# Altium footprint library PDU.PcbLib: 35 footprints (part 2 of 3)
Each footprint in its own frame and in the unit in brackets; x right, y up, seen from the top. Pads: shape width x height; smd on the part's side, far side on the other; paste and mask are expansions set on the pad; w line width, h text height; cw(c..) or ccw(c..) is an arc to the next point about the centre after c.
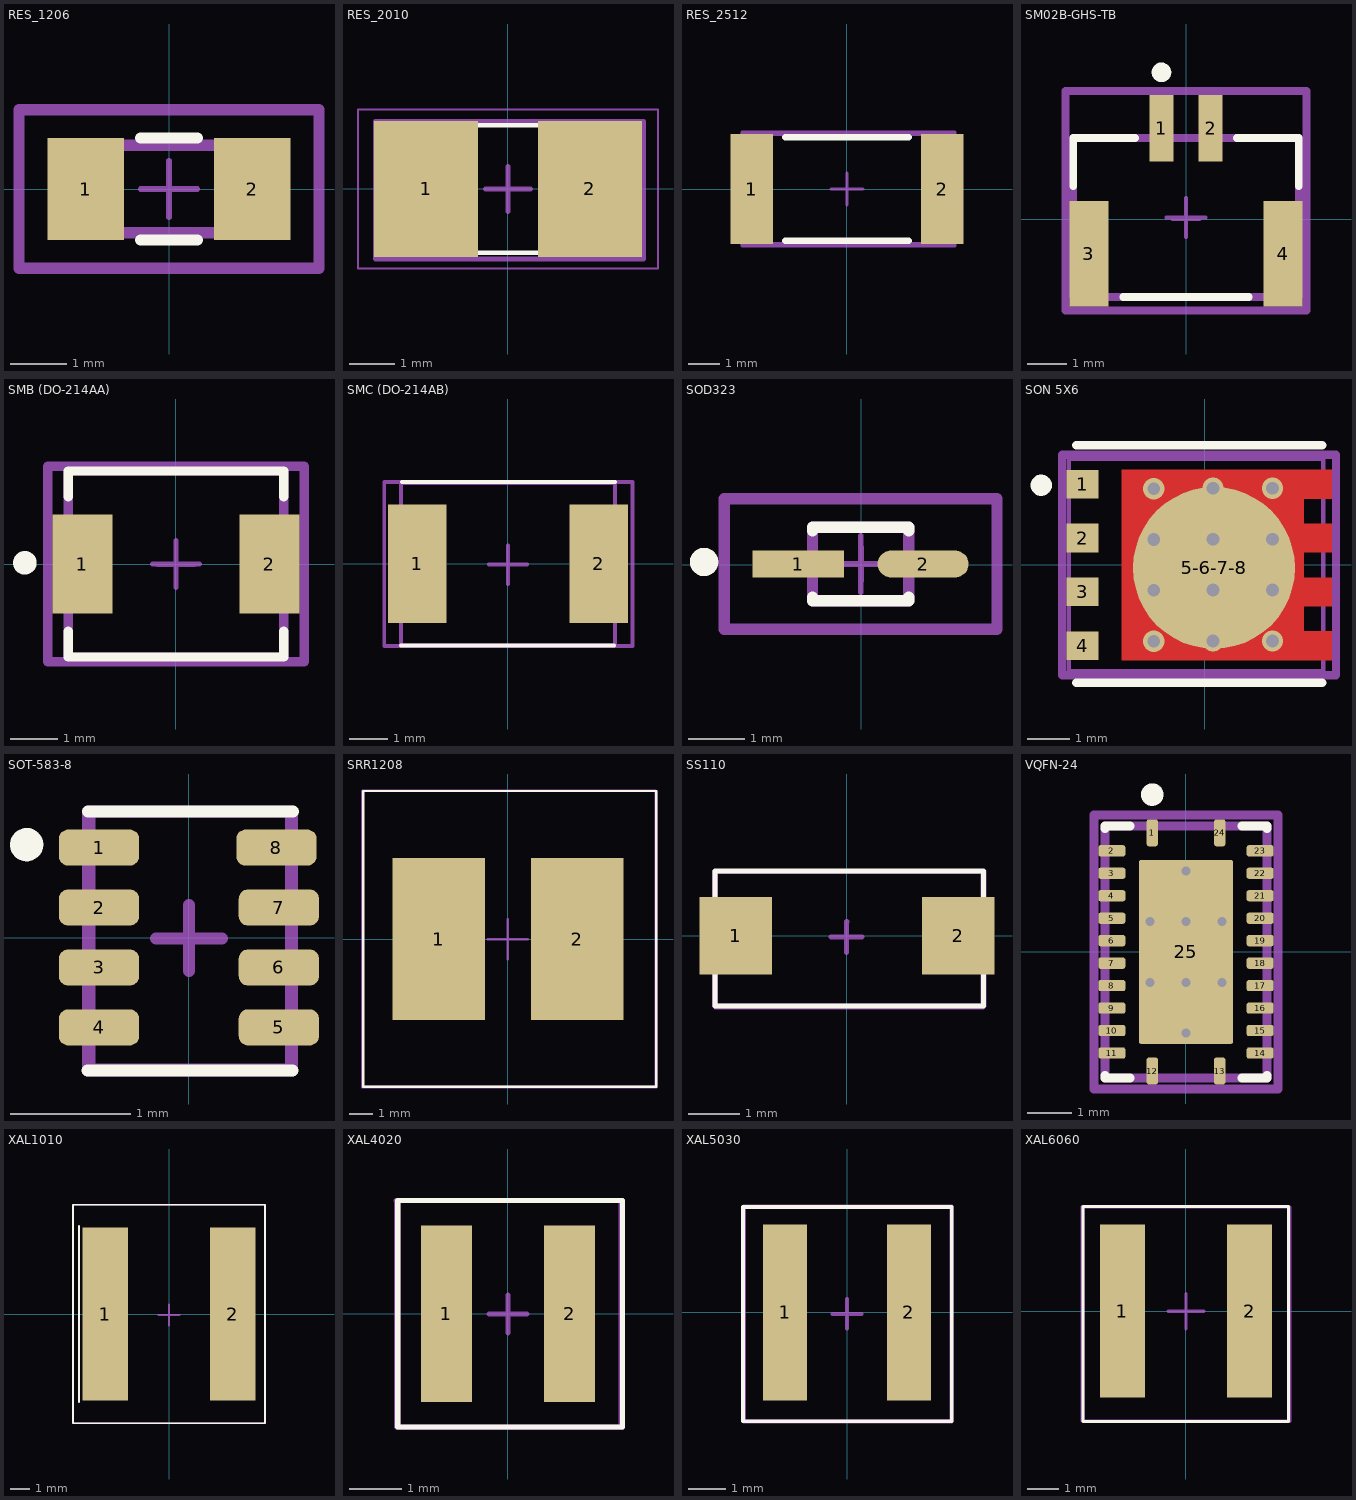
[diagram p1: the footprints below, top view; thin cyan lines are the x and y axes]

## RES_1206 [mm] "CSR1206FK10L0"
pads (2):
  rect 1.356x1.808 smd paste+0 mask+0: 1(-1.476,0) 2(1.476,0)
Top Overlay:
  lines w0.2: -0.498,-0.904 0.498,-0.904 ; -0.498,0.904 0.498,0.904
Top 3D Body:
  lines w0.2: -1.525,-0.775 -1.525,0.775 1.525,0.775 1.525,-0.775 -1.525,-0.775
Top Component Center:
  lines w0.1: -0.405,-0.007 0.401,-0.007 ; -0.002,-0.41 -0.002,0.396 ; -2.654,-1.404 -2.654,1.404 2.654,1.404 2.654,-1.404 -2.654,-1.404
Top Designator:
  text ".Designator" at 0,0.188 h1
Board:
  lines w0.1: -0.5,0 0.5,0 ; 0,-0.5 0,0.5
Top Courtyard:
  lines w0.2: -2.654,-1.404 -2.654,1.404 2.654,1.404 2.654,-1.404 -2.654,-1.404
3D body "Res_Stackpole_Electronics_CSR1206FKR500_eec.STEP": height 0.25, standoff 0, extent -2.654,-1.404 2.654,1.404

## RES_2010 [mm] "CSNL2010FT5L00"
height 0.9
pads (2):
  rect 2.29x3 smd: 1(-1.8,0) 2(1.8,0)
Top Overlay:
  lines w0.1: -1.5,-1.4 1.5,-1.4 ; -1.5,1.4 1.5,1.4
Top Component Center:
  lines w0.1: -0.325,-0.005 0.325,-0.005 ; 0,-0.33 0,0.32 ; -2.92,-1.54 2.99,-1.54 2.99,1.49 -2.92,1.49 -2.92,-1.54
Top Designator:
  text ".Designator" at -1.586,-0.698 h1.52
Top Courtyard:
  lines w0.05: -3.3,-1.75 -3.3,1.75 3.3,1.75 3.3,-1.75 -3.3,-1.75
  lines w0.1: -0.5,0 0.5,0 ; 0,-0.5 0,0.5
3D body: height 0.9, standoff 0, extent -1.875,-1.145 1.875,1.145
3D body: height 0.9, standoff 0, extent -2.665,-1.145 -1.875,1.145
3D body: height 0.9, standoff 0, extent 1.875,-1.145 2.665,1.145

## RES_2512 [mm] "PMR100HZPFU8L00"
height 0.5
pads (2):
  rect 1.35x3.45 smd: 1(-3,0) 2(3,0)
Top Overlay:
  lines w0.2: -1.95,-1.625 1.95,-1.625 ; -1.95,1.625 1.95,1.625
Top 3D Body:
  lines w0.1: -3.3,-1.8 3.4,-1.8 3.4,1.8 -3.3,1.8 -3.3,-1.8
Top Component Center:
  lines w0.1: -0.5,0 0.5,0 ; 0,-0.5 0,0.5 ; -3.325,-1.725 -3.325,1.725 3.325,1.725 3.325,-1.725 -3.325,-1.725
Top Designator:
  text ".Designator" at -0.846,-0.438 h1.52
3D body: height 0.5, standoff 0, extent -2.825,-1.725 2.825,1.725
3D body: height 0.5, standoff 0, extent -3.325,-1.725 -2.825,1.725
3D body: height 0.5, standoff 0, extent 2.825,-1.725 3.325,1.725

## SM02B-GHS-TB [mm]
pads (4):
  rect 0.6x1.7 smd paste+0 mask+0: 1(-0.625,2.315) 2(0.625,2.315)
  rect 1x2.7 smd paste+0 mask+0: 3(-2.475,-0.885) 4(2.475,-0.885)
Top Overlay:
  circle w0.25: c-0.625,3.74 r0.125
  lines w0.2: -2.875,0.84 -2.875,2.065 -1.3,2.065 ; -1.6,-1.985 1.6,-1.985 ; 1.3,2.065 2.875,2.065 2.875,0.84
Top 3D Body:
  lines w0.2: -2.875,-1.985 -2.875,2.065 2.875,2.065 2.875,-1.985 -2.875,-1.985
Top Component Center:
  lines w0.1: -0.34,0 0.34,0 ; 0,-0.34 0,0.34 ; -3.075,-2.335 3.075,-2.335 3.075,3.265 -3.075,3.265 -3.075,-2.335
Top Designator:
  text ".Designator" at 0,0.653 h1
Board:
  lines w0.1: -0.5,0.04 0.5,0.04 ; 0,-0.46 0,0.54
Top Courtyard:
  lines w0.2: -3.075,-2.335 -3.075,3.265 3.075,3.265 3.075,-2.335 -3.075,-2.335
3D body "Conn_JST_SM02B-GHS-TB_LF_SN_eec.STEP": height 0.25, standoff 0, extent -3.075,-2.335 3.075,3.265

## SMB (DO-214AA) [mm] "SMBJ15A-SMBJ33A-SMBJ12A-SMBJ6.0A"
pads (2):
  rect 1.27x2.1 smd paste+0 mask+0: 1(-1.98,0) 2(1.98,0)
Top Overlay:
  circle w0.25: c-3.2,0.025 r0.125
  lines w0.2: -2.285,-1.425 -2.285,-1.97 2.285,-1.97 2.285,-1.425 ; -2.285,1.425 -2.285,1.97 2.285,1.97 2.285,1.425
Top 3D Body:
  lines w0.2: -2.285,-1.97 -2.285,1.97 2.285,1.97 2.285,-1.97 -2.285,-1.97
Top Designator:
  text ".Designator" at 0,0.188 h1
Top Assembly:
  lines w0.1: -0.397,-0.013 0.397,-0.013 ; -0.004,0.385 0,0.385 0,-0.41 ; -2.715,-2.07 -2.715,2.07 2.715,2.07 2.715,-2.07 -2.715,-2.07
Board:
  lines w0.1: -0.5,0 0.5,0 ; 0,-0.5 0,0.5
Top Courtyard:
  lines w0.2: -2.715,-2.07 -2.715,2.07 2.715,2.07 2.715,-2.07 -2.715,-2.07
3D body "Diode_Bourns_Inc_SMBJ5_0A_eec.STEP": height 0.25, standoff 0, extent -2.715,-2.07 2.715,2.07

## SMC (DO-214AB) [mm] "SMCJ58A"
pads (2):
  rect 1.52x3.07 smd paste-2539.97 mask+0.05: 1(-2.345,0) 2(2.345,0)
Top Overlay:
  lines w0.1: -2.765,-2.11 2.745,-2.11 ; -2.74,2.12 2.77,2.12
Top 3D Body:
  lines w0.1: -2.765,-2.11 2.765,-2.11 2.765,2.09 -2.715,2.09 -2.765,2.09 -2.765,-2.11
Top Component Center:
  lines w0.1: -0.499,-0.014 0.491,-0.014 ; 0,-0.52 0,0.47 ; -3.2,-2.13 3.22,-2.13 3.22,2.12 -3.2,2.12 -3.2,-2.13
3D body "Diode_Bourns_Inc_SMBJ5_0A_eec.STEP": height 0.25, standoff 0, extent -2.71,-2.05 2.72,2.09

## SOD323 [mm] "BZT52C15S-7-F"
pads (2):
  rect 1.606x0.472 smd paste+0 mask+0: 1(-1.11,0.01)
  rrect100% 1.606x0.472 smd paste+0 mask+0: 2(1.09,0.01)
Top Overlay:
  circle w0.25: c-2.77,0.046 r0.125
  lines w0.2: -0.86,-0.575 -0.86,-0.64 0.84,-0.64 0.84,-0.575 ; -0.86,0.595 -0.86,0.66 0.84,0.66 0.84,0.595
Top 3D Body:
  lines w0.2: -0.86,-0.64 -0.86,0.66 0.84,0.66 0.84,-0.64 -0.86,-0.64
Top Component Center:
  lines w0.1: -0.3,0.01 0.3,0.01 ; -0.01,0.31 0,0.31 0,-0.29 ; -2.413,-1.14 2.393,-1.14 2.393,1.16 -2.413,1.16 -2.413,-1.14
Top Designator:
  text ".Designator" at -0.01,0.198 h1
Board:
  lines w0.1: -0.51,0.01 0.49,0.01 ; -0.01,-0.49 -0.01,0.51
Top Courtyard:
  lines w0.2: -2.413,-1.14 -2.413,1.16 2.393,1.16 2.393,-1.14 -2.413,-1.14
3D body "Diode_Diodes_Inc_BZT52C15S-7-F_eec.STEP": height 0.25, standoff 0, extent -2.413,-1.14 2.393,1.16

## SON 5X6 [mm] "CSD19534Q5A - CSD18540Q5B - CSD18531Q5A"
pads (5):
  rect 0.75x0.675 smd paste-1000 mask+0: 1(-2.879,1.905) 2(-2.879,0.635) 3(-2.879,-0.635) 4(-2.879,-1.905)
  round 3.821 smd paste-1000 mask+0: 5-6-7-8(0.223,-0.07)
via -1.2,1.8 diameter 0.5 hole 0.3
via -1.2,0.6 diameter 0.5 hole 0.3
via -1.2,-0.6 diameter 0.5 hole 0.3
via -1.2,-1.8 diameter 0.5 hole 0.3
via 0.2,0.607 diameter 0.5 hole 0.3
via 0.2,-0.593 diameter 0.5 hole 0.3
via 0.2,-1.793 diameter 0.5 hole 0.3
via 1.6,1.807 diameter 0.5 hole 0.3
via 1.6,0.607 diameter 0.5 hole 0.3
via 1.6,-0.593 diameter 0.5 hole 0.3
via 1.6,-1.793 diameter 0.5 hole 0.3
via 0.2,1.807 diameter 0.5 hole 0.3
Top Layer:
  region: -1.95,2.242 3,2.242 3,1.568 2.345,1.568 2.345,0.972 3,0.972 3,0.298 2.345,0.298 2.345,-0.298 3,-0.298 3,-0.972 2.345,-0.972 2.345,-1.568 3,-1.568 3,-2.242 -1.95,-2.242
Top Overlay:
  circle w0.25: c-3.852,1.88 r0.125
  lines w0.2: -3.027,-2.775 2.773,-2.775 ; -3.027,2.82 2.773,2.82
Top Paste:
  rectangle: -3.147,1.655 -2.647,2.155
  rectangle: -3.147,0.385 -2.647,0.885
  rectangle: -3.147,-0.885 -2.647,-0.385
  rectangle: -3.147,-2.155 -2.647,-1.655
  rectangle: 2.393,-2.155 2.893,-1.655
  rectangle: 2.393,-0.885 2.893,-0.385
  rectangle: 2.393,0.385 2.893,0.885
  rectangle: 2.393,1.655 2.893,2.155
  rectangle: -1.542,0.31 -0.307,1.88
  rectangle: -1.542,-1.88 -0.307,-0.31
  rectangle: 0.193,0.31 1.778,1.88
  rectangle: 0.193,-1.88 1.778,-0.31
Top 3D Body:
  lines w0.1: -3.2,-2.5 2.8,-2.5 2.8,2.5 -3.2,2.5 -3.2,-2.5
Top Component Center:
  lines w0.1: -0.627,0 0.373,0 ; -0.127,-0.5 -0.127,0.5
  lines w0.2: -3.354,-2.6 -3.354,2.6 3.1,2.6 3.1,-2.6 -3.354,-2.6
Top Designator:
  text ".Designator" at -1.646,-0.438 h1.52
3D body "SON 5X6.STEP": height 1.1, standoff 0, extent -3.2,-2.45 2.8,2.45

## SOT-583-8 [mm] "TPS563300DRLR"
pads (8):
  rrect50% 0.67x0.3 smd paste-2539.97 mask+0.05: 1(-0.75,0.75) 2(-0.75,0.25) 3(-0.75,-0.25) 4(-0.75,-0.75) 5(0.75,-0.75) 6(0.75,-0.25) 7(0.75,0.25) 8(0.73,0.75)
Top Overlay:
  circle w0.15: c-1.353,0.775 r0.064
  lines w0.1: -0.845,-1.11 0.865,-1.11 ; -0.84,1.05 0.87,1.05
Top 3D Body:
  lines w0.1: -0.83,1.05 -0.83,-1.1 0.85,-1.1 0.85,1.05 -0.8,1.05
Top Component Center:
  lines w0.1: -0.274,-0.009 0.276,-0.009 ; 0,-0.28 0,0.27 ; -0.84,-1.11 -0.84,1.05 0.86,1.05 0.86,-1.11 -0.84,-1.11
Top Designator:
  text ".Designator" at -1.386,-0.728 h1.52
3D body "SOT-583-8.STEP": height 0.6, standoff 0, extent -0.8,-1.05 0.8,1.05

## SRR1208 [mm] "SRR1208-100ML"
pads (2):
  rect 4x7 smd paste-2539.97 mask+0.05: 1(-3,0) 2(3,0)
Top Overlay:
  lines w0.1: -6.27,-6.4 -6.27,6.41 6.43,6.41 6.43,-6.4 -6.27,-6.4
Top 3D Body:
  lines w0.1: -6.32,-6.42 -6.32,6.41 6.43,6.41 6.43,-6.42 -6.32,-6.42
Top Component Center:
  lines w0.1: -0.88,-0.005 0.87,-0.005 ; -0.02,0.87 -0.01,0.87 -0.01,-0.88 ; -6.29,-6.39 -6.29,6.42 6.39,6.42 6.39,-6.39 -6.29,-6.39
Top Designator:
  text ".Designator" at -1.086,-0.668 h1.52
3D body "SRR1208.step": height 8.5, standoff 0.01, extent -6.35,-6.35 6.35,6.35

## SS110 [mm] "3"
pads (2):
  rect 1.4x1.5 smd paste-2539.97 mask+0.05: 1(-2.15,0) 2(2.15,0)
Top Overlay:
  lines w0.1: -2.55,1.25 -2.55,-1.36 2.64,-1.36 2.64,1.25 -2.52,1.25
Top 3D Body:
  lines w0.1: -2.54,-1.38 -2.54,1.24 2.63,1.24 2.63,-1.38 -2.54,-1.38
Top Component Center:
  lines w0.1: -0.305,-0.025 0.285,-0.025 ; -0.01,-0.32 -0.01,0.27 0,0.27 ; -2.56,-1.36 -2.56,1.24 -2.54,1.24 2.65,1.24 2.65,-1.36 -2.56,-1.36
Top Designator:
  text ".Designator" at -1.666,-0.588 h1.52
3D body "SS110.STEP": height 2.5, standoff 0, extent -2.55,-1.33 2.59,1.23

## VQFN-24 [mm] "LM5148RGYR"
pads (25):
  rrect40% 0.25x0.6 smd paste+0 mask+0: 1(-0.75,2.65) 12(-0.75,-2.65) 13(0.75,-2.65) 24(0.75,2.65)
  rrect40% 0.6x0.25 smd paste+0 mask+0: 2(-1.65,2.25) 3(-1.65,1.75) 4(-1.65,1.25) 5(-1.65,0.75) 6(-1.65,0.25) 7(-1.65,-0.25) 8(-1.65,-0.75) 9(-1.65,-1.25) 10(-1.65,-1.75) 11(-1.65,-2.25) 14(1.65,-2.25) 15(1.65,-1.75) 16(1.65,-1.25) 17(1.65,-0.75) 18(1.65,-0.25) 19(1.65,0.25) 20(1.65,0.75) 21(1.65,1.25) 22(1.65,1.75) 23(1.65,2.25)
  rrect5% 2.1x4.1 smd paste-1000 mask+0: 25(0,0)
via 0,-1.8 diameter 0.5 hole 0.2
via 0,1.8 diameter 0.5 hole 0.2
via 0,-0.68 diameter 0.5 hole 0.2
via 0,0.68 diameter 0.5 hole 0.2
via 0.8,-0.68 diameter 0.5 hole 0.2
via 0.8,0.68 diameter 0.5 hole 0.2
via -0.8,-0.68 diameter 0.5 hole 0.2
via -0.8,0.68 diameter 0.5 hole 0.2
Top Overlay:
  circle w0.25: c-0.75,3.5 r0.125
  lines w0.2: -1.8,-2.75 -1.8,-2.8 -1.25,-2.8 ; -1.8,2.75 -1.8,2.8 -1.25,2.8 ; 1.25,-2.8 1.8,-2.8 1.8,-2.75 ; 1.25,2.8 1.8,2.8 1.8,2.75
Top Paste:
  drawing of 6 lines, arcs and shapes, not listed
Top 3D Body:
  lines w0.2: -1.8,-2.8 -1.8,2.8 1.8,2.8 1.8,-2.8 -1.8,-2.8
Top Component Center:
  lines w0.1: -0.42,0 0.41,0 ; 0,-0.42 0,0.41 ; -2.05,-3.05 -2.05,3.05 2.05,3.05 2.05,-3.05 -2.05,-3.05
Top Designator:
  text ".Designator" at 0,0.188 h1
Board:
  lines w0.1: -0.5,0 0.5,0 ; 0,-0.5 0,0.5
Top Courtyard:
  lines w0.2: -2.05,-3.05 -2.05,3.05 2.05,3.05 2.05,-3.05 -2.05,-3.05
3D body "IC_Texas_Instruments_LM5148RGYR_eec.STEP": height 0.25, standoff 0, extent -2.05,-3.05 2.05,3.05

## XAL1010 [mm] "XAL1010-562MEB - Power Inductors - SMD 5.6uH Shld 20% 21.2A 6.93mOhms AECQ2"
pads (2):
  rect 2.38x9 smd paste-2539.97 mask+0.05: 1(-3.325,0) 2(3.325,0)
Top Overlay:
  lines w0.1: -4.7,-4.6 -4.7,4.6 ; -5,-5.7 -5,5.7 5,5.7 5,-5.7 -5,-5.7
Top 3D Body:
  lines w0.1: -5,-5.7 -5,5.7 5,5.7 5,-5.7 -5,-5.7
Top Component Center:
  lines w0.1: -0.55,-0.05 0.55,-0.05 ; 0,-0.6 0,0.5 ; -5,-5.7 -5,5.7 5,5.7 5,-5.7 -5,-5.7
Top Designator:
  text ".Designator" at -1.546,-0.238 h1.52
3D body "XAL1010-562MEB.STEP": height 10, standoff 0, extent -5,-5.65 5,5.65

## XAL4020 [mm]
pads (2):
  rect 0.98x3.4 smd paste-2539.97 mask+0.05: 1(-1.185,0) 2(1.185,0)
Top Overlay:
  lines w0.1: -2.12,-2.18 -2.12,2.18 2.2,2.18 2.2,-2.18 -2.12,-2.18
Top 3D Body:
  lines w0.1: -2.14,-2.18 -2.14,2.18 2.18,2.18 2.18,-2.18 -2.14,-2.18
Top Component Center:
  lines w0.1: -0.365,-0.005 0.365,-0.005 ; 0,-0.37 0,0.36 ; -2.15,2.18 -2.12,2.18 -2.12,-2.19 2.2,-2.19 2.2,2.18 -2.15,2.18
3D body "XAL4020.STEP": height 2, standoff -0.1, extent -2.145,-2.14 2.155,2.16

## XAL5030 [mm]
pads (2):
  rect 1.18x4.7 smd paste-2539.97 mask+0.05: 1(-1.655,0) 2(1.655,0)
Top Overlay:
  lines w0.1: -2.78,-2.91 2.8,-2.91 2.8,2.81 -2.78,2.81 -2.78,-2.91
Top 3D Body:
  lines w0.1: -2.75,-2.92 2.79,-2.92 2.79,2.83 -2.75,2.83 -2.75,-2.92
Top Component Center:
  lines w0.1: -0.396,-0.047 0.394,-0.047 ; 0,-0.43 0,0.36 ; -2.76,2.83 2.79,2.83 2.79,-2.91 -2.75,-2.91 -2.75,2.83 -2.76,2.83
3D body "XAL5030.STEP": height 3, standoff -0.1, extent -2.735,-2.86 2.745,2.82

## XAL6060 [mm] "Güç İndüktörleri - SMD 4.7uH Shld 20% 11A 14.4mOhms AECQ2"
pads (2):
  rect 1.43x5.5 smd paste-2539.97 mask+0.05: 1(-2.02,0) 2(2.02,0)
Top Overlay:
  lines w0.1: -3.27,-3.51 -3.27,3.33 -3.25,3.33 3.26,3.33 3.26,-3.51 -3.27,-3.51
Top 3D Body:
  lines w0.1: -3.28,-3.5 3.3,-3.5 3.3,3.31 -3.28,3.31 -3.28,-3.5
Top Component Center:
  lines w0.1: -0.563,-0.001 0.567,-0.001 ; 0,-0.57 0,0.56 ; -3.3,-3.49 3.29,-3.49 3.29,3.33 -3.3,3.33 -3.3,-3.49
Top Designator:
  text ".Designator" at -1.096,-0.348 h1.52
3D body "XAL6030.STEP": height 3, standoff -0.1, extent -3.28,-3.47 3.28,3.29